# Altium integrated library BT138.IntLib: 1 symbol
Pins are listed as number, name and electrical type; pins without a type are passive.

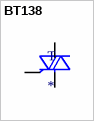
[diagram p0: symbol BT138]

## BT138
designator T
TRIAC Standard 800V 12A Through Hole TO-220AB; MP: BT138; MF: WeEn Semiconductors; Package: TO-220 WeEn Semiconductors; Value: *; Availability: Unavailable; Price: None; SnapEDA_Link: https://www.snapeda.com/parts/BT138/WeEn%20Semiconductors/view-part/523708/?ref=snap
footprint TO220BH
pins: G, T1 A1, T2 A2